# EAGLE library part RF4463F30 (library Nomeo-Transceivers)
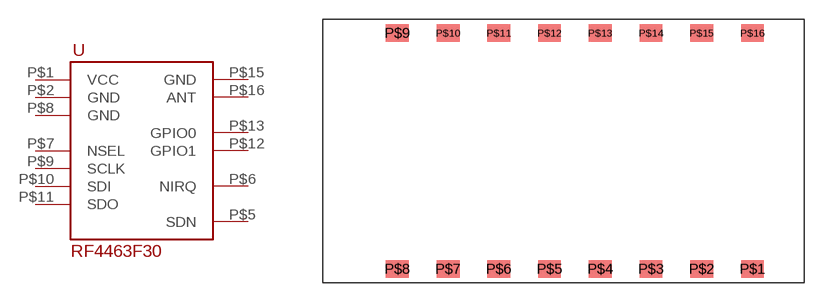
[diagram p0: symbol with the pads of NICERF_16PIN_SPI_TRANSCEIVER; footprint NICERF_16PIN_SPI_TRANSCEIVER]

Designator prefix -

## RF4463F30  [NICERF_16PIN_SPI_TRANSCEIVER]
P$1  VCC
P$2  GND
P$5  SDN
P$6  NIRQ
P$7  NSEL
P$8  GND
P$9  SCLK
P$10  SDI
P$11  SDO
P$12  GPIO1
P$13  GPIO0
P$15  GND
P$16  ANT

## Footprint NICERF_16PIN_SPI_TRANSCEIVER (pad centres in mm)
smd 1.8 x 1.4: P$1 33.9,-19.7; P$2 29.9,-19.7; P$3 25.9,-19.7; P$4 21.9,-19.7; P$5 17.9,-19.7; P$6 13.9,-19.7; P$7 9.9,-19.7; P$8 5.9,-19.7; P$9 5.9,-1.1; P$10 9.9,-1.1; P$11 13.9,-1.1; P$12 17.9,-1.1; P$13 21.9,-1.1; P$14 25.9,-1.1; P$15 29.9,-1.1; P$16 33.9,-1.1